# Altium footprint library Resistors.PcbLib: 73 footprints (part 4 of 5)
Each footprint in its own frame and in the unit in brackets; x right, y up, seen from the top. Pads: shape width x height; smd on the part's side, far side on the other; paste and mask are expansions set on the pad; w line width, h text height; cw(c..) or ccw(c..) is an arc to the next point about the centre after c.
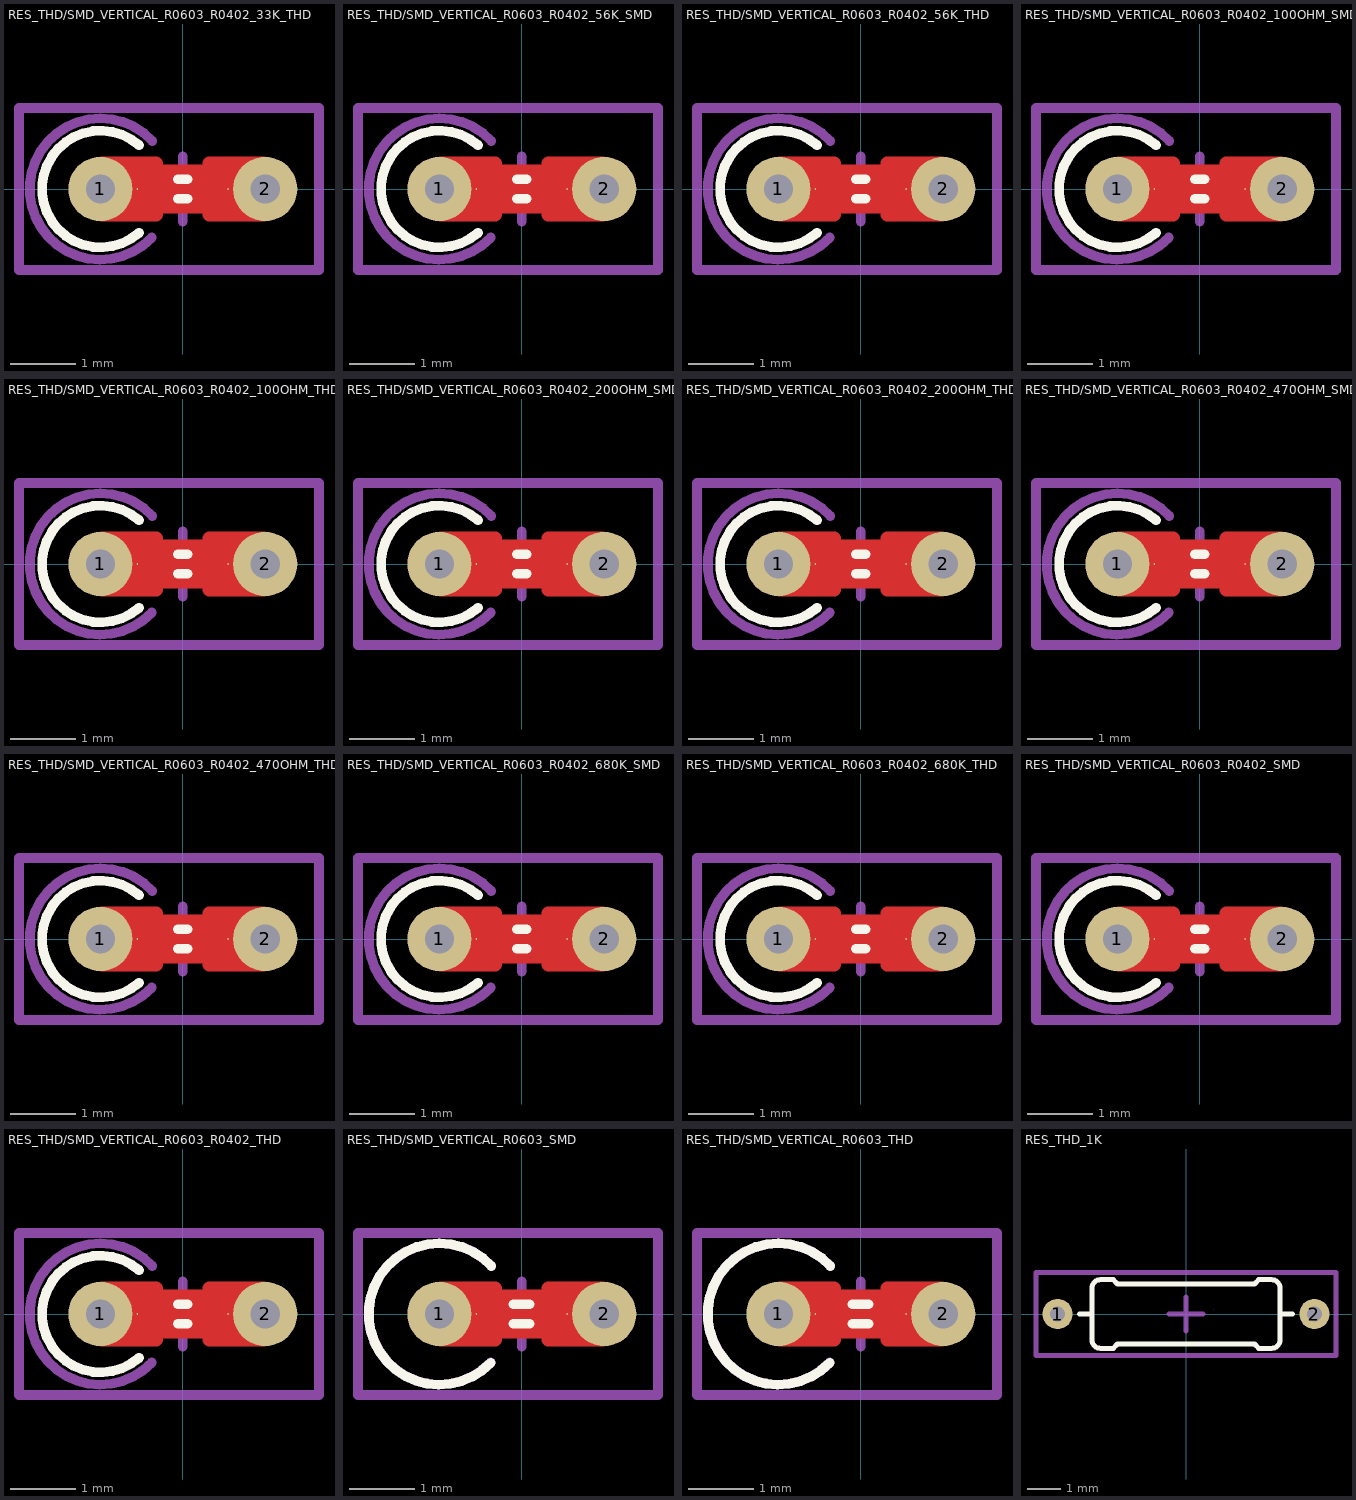
[diagram p3: the footprints below, top view; thin cyan lines are the x and y axes]

## RES_THD/SMD_VERTICAL_R0603_R0402_33K_THD [mm] "Resistor, Through Hole & SMD 0603, Vertical Mount, THD 3D Model 33k, ±1%"
pads (4):
  round 0.99 / inner round 0.99 / far side round 1.3 hole 0.45: 1(-1.27,0) 2(1.27,0)
  round 0.025 smd: 1(-0.7,0) 2(0.7,0)
Top Layer:
  pour cut-out: -0.407,0.371 0.407,0.371 0.407,-0.371 -0.407,-0.371
  region: 0.408,-0.495 1.255,-0.495 1.274,-0.495 1.309,-0.481 1.336,-0.454 1.35,-0.419 1.35,-0.4 1.35,0.4 1.35,0.419 1.336,0.454 1.309,0.481 1.274,0.495 1.255,0.495 0.407,0.495 0.388,0.495 0.352,0.48 0.325,0.453 0.31,0.417 0.31,0.397 0.31,0.3 0.25,0.3 0.24,0.3 0.222,0.292 0.208,0.278 0.2,0.26 0.2,0.25 0.2,-0.25 0.2,-0.26 0.208,-0.278 0.222,-0.292 0.24,-0.3 0.25,-0.3 0.31,-0.3 0.31,-0.397 0.31,-0.417 0.325,-0.453 0.352,-0.48 0.388,-0.495
  region: -0.408,-0.495 -1.255,-0.495 -1.274,-0.495 -1.309,-0.481 -1.336,-0.454 -1.35,-0.419 -1.35,-0.4 -1.35,0.4 -1.35,0.419 -1.336,0.454 -1.309,0.481 -1.274,0.495 -1.255,0.495 -0.407,0.495 -0.388,0.495 -0.352,0.48 -0.325,0.453 -0.31,0.417 -0.31,0.397 -0.31,0.3 -0.25,0.3 -0.24,0.3 -0.222,0.292 -0.208,0.278 -0.2,0.26 -0.2,0.25 -0.2,-0.25 -0.2,-0.26 -0.208,-0.278 -0.222,-0.292 -0.24,-0.3 -0.25,-0.3 -0.31,-0.3 -0.31,-0.397 -0.31,-0.417 -0.325,-0.453 -0.352,-0.48 -0.388,-0.495
Top Overlay:
  lines w0.15: -0.675,-0.675 cw(c-1.27,0) -0.675,0.675 ; -0.075,-0.15 0.075,-0.15 ; -0.075,0.15 0.075,0.15
Top Designator:
  text ".Designator" at -2.503,-0.266 h1.3
Mechanical 13:
  lines w0.15: -0.478,-0.749 cw(c-1.27,0) -0.471,0.741
Mechanical 15:
  lines w0.15: -0.5,0 0.5,0 ; 0,-0.5 0,0.5 ; -2.525,-1.25 -2.525,1.25 2.1,1.25 2.1,-1.25 -2.525,-1.25
3D body "Ðåçèñòîð Âûâîäíîé Âåðòèêàëüíûé 33 êÎì.stp": height 7.79, standoff -1.9, extent -2.438,-1.168 1.485,1.168

## RES_THD/SMD_VERTICAL_R0603_R0402_56K_SMD [mm] "Resistor, Through Hole & SMD 0603, Vertical Mount, SMD 3D Model 56k, ±1%"
pads (4):
  round 0.99 / inner round 0.99 / far side round 1.3 hole 0.45: 1(-1.27,0) 2(1.27,0)
  round 0.025 smd: 1(-0.7,0) 2(0.7,0)
Top Layer:
  pour cut-out: -0.407,0.371 0.407,0.371 0.407,-0.371 -0.407,-0.371
  region: 0.408,-0.495 1.255,-0.495 1.274,-0.495 1.309,-0.481 1.336,-0.454 1.35,-0.419 1.35,-0.4 1.35,0.4 1.35,0.419 1.336,0.454 1.309,0.481 1.274,0.495 1.255,0.495 0.407,0.495 0.388,0.495 0.352,0.48 0.325,0.453 0.31,0.417 0.31,0.397 0.31,0.3 0.25,0.3 0.24,0.3 0.222,0.292 0.208,0.278 0.2,0.26 0.2,0.25 0.2,-0.25 0.2,-0.26 0.208,-0.278 0.222,-0.292 0.24,-0.3 0.25,-0.3 0.31,-0.3 0.31,-0.397 0.31,-0.417 0.325,-0.453 0.352,-0.48 0.388,-0.495
  region: -0.408,-0.495 -1.255,-0.495 -1.274,-0.495 -1.309,-0.481 -1.336,-0.454 -1.35,-0.419 -1.35,-0.4 -1.35,0.4 -1.35,0.419 -1.336,0.454 -1.309,0.481 -1.274,0.495 -1.255,0.495 -0.407,0.495 -0.388,0.495 -0.352,0.48 -0.325,0.453 -0.31,0.417 -0.31,0.397 -0.31,0.3 -0.25,0.3 -0.24,0.3 -0.222,0.292 -0.208,0.278 -0.2,0.26 -0.2,0.25 -0.2,-0.25 -0.2,-0.26 -0.208,-0.278 -0.222,-0.292 -0.24,-0.3 -0.25,-0.3 -0.31,-0.3 -0.31,-0.397 -0.31,-0.417 -0.325,-0.453 -0.352,-0.48 -0.388,-0.495
Top Overlay:
  lines w0.15: -0.675,-0.675 cw(c-1.27,0) -0.675,0.675 ; -0.075,-0.15 0.075,-0.15 ; -0.075,0.15 0.075,0.15
Top Designator:
  text ".Designator" at -2.503,-0.266 h1.3
Mechanical 13:
  lines w0.15: -0.478,-0.749 cw(c-1.27,0) -0.471,0.741
Mechanical 15:
  lines w0.15: -0.5,0 0.5,0 ; 0,-0.5 0,0.5 ; -2.525,-1.25 2.1,-1.25 2.1,1.25 -2.525,1.25 -2.525,-1.25
3D body "56K.x_t": height 0.46, standoff 0, extent -0.8,-0.4 0.8,0.4

## RES_THD/SMD_VERTICAL_R0603_R0402_56K_THD [mm] "Resistor, Through Hole & SMD 0603, Vertical Mount, THD 3D Model 56k, ±1%"
pads (4):
  round 0.99 / inner round 0.99 / far side round 1.3 hole 0.45: 1(-1.27,0) 2(1.27,0)
  round 0.025 smd: 1(-0.7,0) 2(0.7,0)
Top Layer:
  pour cut-out: -0.407,0.371 0.407,0.371 0.407,-0.371 -0.407,-0.371
  region: 0.408,-0.495 1.255,-0.495 1.274,-0.495 1.309,-0.481 1.336,-0.454 1.35,-0.419 1.35,-0.4 1.35,0.4 1.35,0.419 1.336,0.454 1.309,0.481 1.274,0.495 1.255,0.495 0.407,0.495 0.388,0.495 0.352,0.48 0.325,0.453 0.31,0.417 0.31,0.397 0.31,0.3 0.25,0.3 0.24,0.3 0.222,0.292 0.208,0.278 0.2,0.26 0.2,0.25 0.2,-0.25 0.2,-0.26 0.208,-0.278 0.222,-0.292 0.24,-0.3 0.25,-0.3 0.31,-0.3 0.31,-0.397 0.31,-0.417 0.325,-0.453 0.352,-0.48 0.388,-0.495
  region: -0.408,-0.495 -1.255,-0.495 -1.274,-0.495 -1.309,-0.481 -1.336,-0.454 -1.35,-0.419 -1.35,-0.4 -1.35,0.4 -1.35,0.419 -1.336,0.454 -1.309,0.481 -1.274,0.495 -1.255,0.495 -0.407,0.495 -0.388,0.495 -0.352,0.48 -0.325,0.453 -0.31,0.417 -0.31,0.397 -0.31,0.3 -0.25,0.3 -0.24,0.3 -0.222,0.292 -0.208,0.278 -0.2,0.26 -0.2,0.25 -0.2,-0.25 -0.2,-0.26 -0.208,-0.278 -0.222,-0.292 -0.24,-0.3 -0.25,-0.3 -0.31,-0.3 -0.31,-0.397 -0.31,-0.417 -0.325,-0.453 -0.352,-0.48 -0.388,-0.495
Top Overlay:
  lines w0.15: -0.675,-0.675 cw(c-1.27,0) -0.675,0.675 ; -0.075,-0.15 0.075,-0.15 ; -0.075,0.15 0.075,0.15
Top Designator:
  text ".Designator" at -2.503,-0.266 h1.3
Mechanical 13:
  lines w0.15: -0.478,-0.749 cw(c-1.27,0) -0.471,0.741
Mechanical 15:
  lines w0.15: -0.5,0 0.5,0 ; 0,-0.5 0,0.5 ; -2.525,-1.25 -2.525,1.25 2.1,1.25 2.1,-1.25 -2.525,-1.25
3D body "Ðåçèñòîð Âûâîäíîé Âåðòèêàëüíûé 56 êÎì.stp": height 7.79, standoff -1.9, extent -2.438,-1.168 1.485,1.168

## RES_THD/SMD_VERTICAL_R0603_R0402_100OHM_SMD [mm] "Resistor, Through Hole & SMD 0603, Vertical Mount, SMD 3D Model 100Ohm, ±1%"
pads (4):
  round 0.99 / inner round 0.99 / far side round 1.3 hole 0.45: 1(-1.27,0) 2(1.27,0)
  round 0.025 smd: 1(-0.7,0) 2(0.7,0)
Top Layer:
  pour cut-out: -0.407,0.371 0.407,0.371 0.407,-0.371 -0.407,-0.371
  region: 0.408,-0.495 1.255,-0.495 1.274,-0.495 1.309,-0.481 1.336,-0.454 1.35,-0.419 1.35,-0.4 1.35,0.4 1.35,0.419 1.336,0.454 1.309,0.481 1.274,0.495 1.255,0.495 0.407,0.495 0.388,0.495 0.352,0.48 0.325,0.453 0.31,0.417 0.31,0.397 0.31,0.3 0.25,0.3 0.24,0.3 0.222,0.292 0.208,0.278 0.2,0.26 0.2,0.25 0.2,-0.25 0.2,-0.26 0.208,-0.278 0.222,-0.292 0.24,-0.3 0.25,-0.3 0.31,-0.3 0.31,-0.397 0.31,-0.417 0.325,-0.453 0.352,-0.48 0.388,-0.495
  region: -0.408,-0.495 -1.255,-0.495 -1.274,-0.495 -1.309,-0.481 -1.336,-0.454 -1.35,-0.419 -1.35,-0.4 -1.35,0.4 -1.35,0.419 -1.336,0.454 -1.309,0.481 -1.274,0.495 -1.255,0.495 -0.407,0.495 -0.388,0.495 -0.352,0.48 -0.325,0.453 -0.31,0.417 -0.31,0.397 -0.31,0.3 -0.25,0.3 -0.24,0.3 -0.222,0.292 -0.208,0.278 -0.2,0.26 -0.2,0.25 -0.2,-0.25 -0.2,-0.26 -0.208,-0.278 -0.222,-0.292 -0.24,-0.3 -0.25,-0.3 -0.31,-0.3 -0.31,-0.397 -0.31,-0.417 -0.325,-0.453 -0.352,-0.48 -0.388,-0.495
Top Overlay:
  lines w0.15: -0.675,-0.675 cw(c-1.27,0) -0.675,0.675 ; -0.075,-0.15 0.075,-0.15 ; -0.075,0.15 0.075,0.15
Top Designator:
  text ".Designator" at -2.503,-0.266 h1.3
Mechanical 13:
  lines w0.15: -0.478,-0.749 cw(c-1.27,0) -0.471,0.741
Mechanical 15:
  lines w0.15: -0.5,0 0.5,0 ; 0,-0.5 0,0.5 ; -2.525,-1.25 -2.525,1.25 2.1,1.25 2.1,-1.25 -2.525,-1.25
3D body "100 ohm.x_t": height 0.46, standoff 0, extent -0.8,-0.4 0.8,0.4

## RES_THD/SMD_VERTICAL_R0603_R0402_100OHM_THD [mm] "Resistor, Through Hole & SMD 0603, Vertical Mount, THD 3D Model 100Ohm, ±1%"
pads (4):
  round 0.99 / inner round 0.99 / far side round 1.3 hole 0.45: 1(-1.27,0) 2(1.27,0)
  round 0.025 smd: 1(-0.7,0) 2(0.7,0)
Top Layer:
  pour cut-out: -0.407,0.371 0.407,0.371 0.407,-0.371 -0.407,-0.371
  region: 0.408,-0.495 1.255,-0.495 1.274,-0.495 1.309,-0.481 1.336,-0.454 1.35,-0.419 1.35,-0.4 1.35,0.4 1.35,0.419 1.336,0.454 1.309,0.481 1.274,0.495 1.255,0.495 0.407,0.495 0.388,0.495 0.352,0.48 0.325,0.453 0.31,0.417 0.31,0.397 0.31,0.3 0.25,0.3 0.24,0.3 0.222,0.292 0.208,0.278 0.2,0.26 0.2,0.25 0.2,-0.25 0.2,-0.26 0.208,-0.278 0.222,-0.292 0.24,-0.3 0.25,-0.3 0.31,-0.3 0.31,-0.397 0.31,-0.417 0.325,-0.453 0.352,-0.48 0.388,-0.495
  region: -0.408,-0.495 -1.255,-0.495 -1.274,-0.495 -1.309,-0.481 -1.336,-0.454 -1.35,-0.419 -1.35,-0.4 -1.35,0.4 -1.35,0.419 -1.336,0.454 -1.309,0.481 -1.274,0.495 -1.255,0.495 -0.407,0.495 -0.388,0.495 -0.352,0.48 -0.325,0.453 -0.31,0.417 -0.31,0.397 -0.31,0.3 -0.25,0.3 -0.24,0.3 -0.222,0.292 -0.208,0.278 -0.2,0.26 -0.2,0.25 -0.2,-0.25 -0.2,-0.26 -0.208,-0.278 -0.222,-0.292 -0.24,-0.3 -0.25,-0.3 -0.31,-0.3 -0.31,-0.397 -0.31,-0.417 -0.325,-0.453 -0.352,-0.48 -0.388,-0.495
Top Overlay:
  lines w0.15: -0.675,-0.675 cw(c-1.27,0) -0.675,0.675 ; -0.075,-0.15 0.075,-0.15 ; -0.075,0.15 0.075,0.15
Top Designator:
  text ".Designator" at -2.503,-0.266 h1.3
Mechanical 13:
  lines w0.15: -0.478,-0.749 cw(c-1.27,0) -0.471,0.741
Mechanical 15:
  lines w0.15: -0.5,0 0.5,0 ; 0,-0.5 0,0.5 ; -2.525,-1.25 2.1,-1.25 2.1,1.25 -2.525,1.25 -2.525,-1.25
3D body "Ðåçèñòîð Âûâîäíîé Âåðòèêàëüíûé 100 Îì.stp": height 7.79, standoff -1.9, extent -2.438,-1.168 1.485,1.168

## RES_THD/SMD_VERTICAL_R0603_R0402_200OHM_SMD [mm] "Resistor, Through Hole & SMD 0603, Vertical Mount, SMD 3D Model 200Ohm, ±1%"
pads (4):
  round 0.99 / inner round 0.99 / far side round 1.3 hole 0.45: 1(-1.27,0) 2(1.27,0)
  round 0.025 smd: 1(-0.7,0) 2(0.7,0)
Top Layer:
  pour cut-out: -0.407,0.371 0.407,0.371 0.407,-0.371 -0.407,-0.371
  region: 0.408,-0.495 1.255,-0.495 1.274,-0.495 1.309,-0.481 1.336,-0.454 1.35,-0.419 1.35,-0.4 1.35,0.4 1.35,0.419 1.336,0.454 1.309,0.481 1.274,0.495 1.255,0.495 0.407,0.495 0.388,0.495 0.352,0.48 0.325,0.453 0.31,0.417 0.31,0.397 0.31,0.3 0.25,0.3 0.24,0.3 0.222,0.292 0.208,0.278 0.2,0.26 0.2,0.25 0.2,-0.25 0.2,-0.26 0.208,-0.278 0.222,-0.292 0.24,-0.3 0.25,-0.3 0.31,-0.3 0.31,-0.397 0.31,-0.417 0.325,-0.453 0.352,-0.48 0.388,-0.495
  region: -0.408,-0.495 -1.255,-0.495 -1.274,-0.495 -1.309,-0.481 -1.336,-0.454 -1.35,-0.419 -1.35,-0.4 -1.35,0.4 -1.35,0.419 -1.336,0.454 -1.309,0.481 -1.274,0.495 -1.255,0.495 -0.407,0.495 -0.388,0.495 -0.352,0.48 -0.325,0.453 -0.31,0.417 -0.31,0.397 -0.31,0.3 -0.25,0.3 -0.24,0.3 -0.222,0.292 -0.208,0.278 -0.2,0.26 -0.2,0.25 -0.2,-0.25 -0.2,-0.26 -0.208,-0.278 -0.222,-0.292 -0.24,-0.3 -0.25,-0.3 -0.31,-0.3 -0.31,-0.397 -0.31,-0.417 -0.325,-0.453 -0.352,-0.48 -0.388,-0.495
Top Overlay:
  lines w0.15: -0.675,-0.675 cw(c-1.27,0) -0.675,0.675 ; -0.075,-0.15 0.075,-0.15 ; -0.075,0.15 0.075,0.15
Top Designator:
  text ".Designator" at -2.503,-0.266 h1.3
Mechanical 13:
  lines w0.15: -0.478,-0.749 cw(c-1.27,0) -0.471,0.741
Mechanical 15:
  lines w0.15: -0.5,0 0.5,0 ; 0,-0.5 0,0.5 ; -2.525,-1.25 -2.525,1.25 2.1,1.25 2.1,-1.25 -2.525,-1.25
3D body "R0603 - 200 Ohm.stp": height 0.46, standoff 0, extent -0.8,-0.4 0.8,0.4

## RES_THD/SMD_VERTICAL_R0603_R0402_200OHM_THD [mm] "Resistor, Through Hole & SMD 0603, Vertical Mount, THD 3D Model 200Ohm, ±1%"
pads (4):
  round 0.99 / inner round 0.99 / far side round 1.3 hole 0.45: 1(-1.27,0) 2(1.27,0)
  round 0.025 smd: 1(-0.7,0) 2(0.7,0)
Top Layer:
  pour cut-out: -0.407,0.371 0.407,0.371 0.407,-0.371 -0.407,-0.371
  region: 0.408,-0.495 1.255,-0.495 1.274,-0.495 1.309,-0.481 1.336,-0.454 1.35,-0.419 1.35,-0.4 1.35,0.4 1.35,0.419 1.336,0.454 1.309,0.481 1.274,0.495 1.255,0.495 0.407,0.495 0.388,0.495 0.352,0.48 0.325,0.453 0.31,0.417 0.31,0.397 0.31,0.3 0.25,0.3 0.24,0.3 0.222,0.292 0.208,0.278 0.2,0.26 0.2,0.25 0.2,-0.25 0.2,-0.26 0.208,-0.278 0.222,-0.292 0.24,-0.3 0.25,-0.3 0.31,-0.3 0.31,-0.397 0.31,-0.417 0.325,-0.453 0.352,-0.48 0.388,-0.495
  region: -0.408,-0.495 -1.255,-0.495 -1.274,-0.495 -1.309,-0.481 -1.336,-0.454 -1.35,-0.419 -1.35,-0.4 -1.35,0.4 -1.35,0.419 -1.336,0.454 -1.309,0.481 -1.274,0.495 -1.255,0.495 -0.407,0.495 -0.388,0.495 -0.352,0.48 -0.325,0.453 -0.31,0.417 -0.31,0.397 -0.31,0.3 -0.25,0.3 -0.24,0.3 -0.222,0.292 -0.208,0.278 -0.2,0.26 -0.2,0.25 -0.2,-0.25 -0.2,-0.26 -0.208,-0.278 -0.222,-0.292 -0.24,-0.3 -0.25,-0.3 -0.31,-0.3 -0.31,-0.397 -0.31,-0.417 -0.325,-0.453 -0.352,-0.48 -0.388,-0.495
Top Overlay:
  lines w0.15: -0.675,-0.675 cw(c-1.27,0) -0.675,0.675 ; -0.075,-0.15 0.075,-0.15 ; -0.075,0.15 0.075,0.15
Top Designator:
  text ".Designator" at -2.503,-0.266 h1.3
Mechanical 13:
  lines w0.15: -0.478,-0.749 cw(c-1.27,0) -0.471,0.741
Mechanical 15:
  lines w0.15: -0.5,0 0.5,0 ; 0,-0.5 0,0.5 ; -2.525,-1.25 2.1,-1.25 2.1,1.25 -2.525,1.25 -2.525,-1.25
3D body "Ðåçèñòîð Âûâîäíîé Âåðòèêàëüíûé 200 Îì.stp": height 7.79, standoff -1.9, extent -2.438,-1.168 1.485,1.168

## RES_THD/SMD_VERTICAL_R0603_R0402_470OHM_SMD [mm] "Resistor, Through Hole & SMD 0603, Vertical Mount, SMD 3D Model 470Ohm, ±1%"
pads (4):
  round 0.99 / inner round 0.99 / far side round 1.3 hole 0.45: 1(-1.27,0) 2(1.27,0)
  round 0.025 smd: 1(-0.7,0) 2(0.7,0)
Top Layer:
  pour cut-out: -0.407,0.371 0.407,0.371 0.407,-0.371 -0.407,-0.371
  region: 0.408,-0.495 1.255,-0.495 1.274,-0.495 1.309,-0.481 1.336,-0.454 1.35,-0.419 1.35,-0.4 1.35,0.4 1.35,0.419 1.336,0.454 1.309,0.481 1.274,0.495 1.255,0.495 0.407,0.495 0.388,0.495 0.352,0.48 0.325,0.453 0.31,0.417 0.31,0.397 0.31,0.3 0.25,0.3 0.24,0.3 0.222,0.292 0.208,0.278 0.2,0.26 0.2,0.25 0.2,-0.25 0.2,-0.26 0.208,-0.278 0.222,-0.292 0.24,-0.3 0.25,-0.3 0.31,-0.3 0.31,-0.397 0.31,-0.417 0.325,-0.453 0.352,-0.48 0.388,-0.495
  region: -0.408,-0.495 -1.255,-0.495 -1.274,-0.495 -1.309,-0.481 -1.336,-0.454 -1.35,-0.419 -1.35,-0.4 -1.35,0.4 -1.35,0.419 -1.336,0.454 -1.309,0.481 -1.274,0.495 -1.255,0.495 -0.407,0.495 -0.388,0.495 -0.352,0.48 -0.325,0.453 -0.31,0.417 -0.31,0.397 -0.31,0.3 -0.25,0.3 -0.24,0.3 -0.222,0.292 -0.208,0.278 -0.2,0.26 -0.2,0.25 -0.2,-0.25 -0.2,-0.26 -0.208,-0.278 -0.222,-0.292 -0.24,-0.3 -0.25,-0.3 -0.31,-0.3 -0.31,-0.397 -0.31,-0.417 -0.325,-0.453 -0.352,-0.48 -0.388,-0.495
Top Overlay:
  lines w0.15: -0.675,-0.675 cw(c-1.27,0) -0.675,0.675 ; -0.075,-0.15 0.075,-0.15 ; -0.075,0.15 0.075,0.15
Top Designator:
  text ".Designator" at -2.503,-0.266 h1.3
Mechanical 13:
  lines w0.15: -0.478,-0.749 cw(c-1.27,0) -0.471,0.741
Mechanical 15:
  lines w0.15: -0.5,0 0.5,0 ; 0,-0.5 0,0.5 ; -2.525,-1.25 -2.525,1.25 2.1,1.25 2.1,-1.25 -2.525,-1.25
3D body "470 ohm.x_t": height 0.46, standoff 0, extent -0.8,-0.4 0.8,0.4

## RES_THD/SMD_VERTICAL_R0603_R0402_470OHM_THD [mm] "Resistor, Through Hole & SMD 0603, Vertical Mount, THD 3D Model 470Ohm, ±1%"
pads (4):
  round 0.99 / inner round 0.99 / far side round 1.3 hole 0.45: 1(-1.27,0) 2(1.27,0)
  round 0.025 smd: 1(-0.7,0) 2(0.7,0)
Top Layer:
  pour cut-out: -0.407,0.371 0.407,0.371 0.407,-0.371 -0.407,-0.371
  region: 0.408,-0.495 1.255,-0.495 1.274,-0.495 1.309,-0.481 1.336,-0.454 1.35,-0.419 1.35,-0.4 1.35,0.4 1.35,0.419 1.336,0.454 1.309,0.481 1.274,0.495 1.255,0.495 0.407,0.495 0.388,0.495 0.352,0.48 0.325,0.453 0.31,0.417 0.31,0.397 0.31,0.3 0.25,0.3 0.24,0.3 0.222,0.292 0.208,0.278 0.2,0.26 0.2,0.25 0.2,-0.25 0.2,-0.26 0.208,-0.278 0.222,-0.292 0.24,-0.3 0.25,-0.3 0.31,-0.3 0.31,-0.397 0.31,-0.417 0.325,-0.453 0.352,-0.48 0.388,-0.495
  region: -0.408,-0.495 -1.255,-0.495 -1.274,-0.495 -1.309,-0.481 -1.336,-0.454 -1.35,-0.419 -1.35,-0.4 -1.35,0.4 -1.35,0.419 -1.336,0.454 -1.309,0.481 -1.274,0.495 -1.255,0.495 -0.407,0.495 -0.388,0.495 -0.352,0.48 -0.325,0.453 -0.31,0.417 -0.31,0.397 -0.31,0.3 -0.25,0.3 -0.24,0.3 -0.222,0.292 -0.208,0.278 -0.2,0.26 -0.2,0.25 -0.2,-0.25 -0.2,-0.26 -0.208,-0.278 -0.222,-0.292 -0.24,-0.3 -0.25,-0.3 -0.31,-0.3 -0.31,-0.397 -0.31,-0.417 -0.325,-0.453 -0.352,-0.48 -0.388,-0.495
Top Overlay:
  lines w0.15: -0.675,-0.675 cw(c-1.27,0) -0.675,0.675 ; -0.075,-0.15 0.075,-0.15 ; -0.075,0.15 0.075,0.15
Top Designator:
  text ".Designator" at -2.503,-0.266 h1.3
Mechanical 13:
  lines w0.15: -0.478,-0.749 cw(c-1.27,0) -0.471,0.741
Mechanical 15:
  lines w0.15: -0.5,0 0.5,0 ; 0,-0.5 0,0.5 ; -2.525,-1.25 -2.525,1.25 2.1,1.25 2.1,-1.25 -2.525,-1.25
3D body "Ðåçèñòîð Âûâîäíîé Âåðòèêàëüíûé 470 Îì.stp": height 7.79, standoff -1.9, extent -2.438,-1.168 1.485,1.168

## RES_THD/SMD_VERTICAL_R0603_R0402_680K_SMD [mm] "Resistor, Through Hole & SMD 0603, Vertical Mount, SMD 3D Model 680k, ±1%"
pads (4):
  round 0.99 / inner round 0.99 / far side round 1.3 hole 0.45: 1(-1.27,0) 2(1.27,0)
  round 0.025 smd: 1(-0.7,0) 2(0.7,0)
Top Layer:
  pour cut-out: -0.407,0.371 0.407,0.371 0.407,-0.371 -0.407,-0.371
  region: 0.408,-0.495 1.255,-0.495 1.274,-0.495 1.309,-0.481 1.336,-0.454 1.35,-0.419 1.35,-0.4 1.35,0.4 1.35,0.419 1.336,0.454 1.309,0.481 1.274,0.495 1.255,0.495 0.407,0.495 0.388,0.495 0.352,0.48 0.325,0.453 0.31,0.417 0.31,0.397 0.31,0.3 0.25,0.3 0.24,0.3 0.222,0.292 0.208,0.278 0.2,0.26 0.2,0.25 0.2,-0.25 0.2,-0.26 0.208,-0.278 0.222,-0.292 0.24,-0.3 0.25,-0.3 0.31,-0.3 0.31,-0.397 0.31,-0.417 0.325,-0.453 0.352,-0.48 0.388,-0.495
  region: -0.408,-0.495 -1.255,-0.495 -1.274,-0.495 -1.309,-0.481 -1.336,-0.454 -1.35,-0.419 -1.35,-0.4 -1.35,0.4 -1.35,0.419 -1.336,0.454 -1.309,0.481 -1.274,0.495 -1.255,0.495 -0.407,0.495 -0.388,0.495 -0.352,0.48 -0.325,0.453 -0.31,0.417 -0.31,0.397 -0.31,0.3 -0.25,0.3 -0.24,0.3 -0.222,0.292 -0.208,0.278 -0.2,0.26 -0.2,0.25 -0.2,-0.25 -0.2,-0.26 -0.208,-0.278 -0.222,-0.292 -0.24,-0.3 -0.25,-0.3 -0.31,-0.3 -0.31,-0.397 -0.31,-0.417 -0.325,-0.453 -0.352,-0.48 -0.388,-0.495
Top Overlay:
  lines w0.15: -0.675,-0.675 cw(c-1.27,0) -0.675,0.675 ; -0.075,-0.15 0.075,-0.15 ; -0.075,0.15 0.075,0.15
Top Designator:
  text ".Designator" at -2.503,-0.266 h1.3
Mechanical 13:
  lines w0.15: -0.478,-0.749 cw(c-1.27,0) -0.471,0.741
Mechanical 15:
  lines w0.15: -0.5,0 0.5,0 ; 0,-0.5 0,0.5 ; -2.525,-1.25 -2.525,1.25 2.1,1.25 2.1,-1.25 -2.525,-1.25
3D body "R0603 - 680 kOhm.stp": height 0.46, standoff 0, extent -0.8,-0.4 0.8,0.4

## RES_THD/SMD_VERTICAL_R0603_R0402_680K_THD [mm] "Resistor, Through Hole & SMD 0603, Vertical Mount, THD 3D Model 680k, ±1%"
pads (4):
  round 0.99 / inner round 0.99 / far side round 1.3 hole 0.45: 1(-1.27,0) 2(1.27,0)
  round 0.025 smd: 1(-0.7,0) 2(0.7,0)
Top Layer:
  pour cut-out: -0.407,0.371 0.407,0.371 0.407,-0.371 -0.407,-0.371
  region: 0.408,-0.495 1.255,-0.495 1.274,-0.495 1.309,-0.481 1.336,-0.454 1.35,-0.419 1.35,-0.4 1.35,0.4 1.35,0.419 1.336,0.454 1.309,0.481 1.274,0.495 1.255,0.495 0.407,0.495 0.388,0.495 0.352,0.48 0.325,0.453 0.31,0.417 0.31,0.397 0.31,0.3 0.25,0.3 0.24,0.3 0.222,0.292 0.208,0.278 0.2,0.26 0.2,0.25 0.2,-0.25 0.2,-0.26 0.208,-0.278 0.222,-0.292 0.24,-0.3 0.25,-0.3 0.31,-0.3 0.31,-0.397 0.31,-0.417 0.325,-0.453 0.352,-0.48 0.388,-0.495
  region: -0.408,-0.495 -1.255,-0.495 -1.274,-0.495 -1.309,-0.481 -1.336,-0.454 -1.35,-0.419 -1.35,-0.4 -1.35,0.4 -1.35,0.419 -1.336,0.454 -1.309,0.481 -1.274,0.495 -1.255,0.495 -0.407,0.495 -0.388,0.495 -0.352,0.48 -0.325,0.453 -0.31,0.417 -0.31,0.397 -0.31,0.3 -0.25,0.3 -0.24,0.3 -0.222,0.292 -0.208,0.278 -0.2,0.26 -0.2,0.25 -0.2,-0.25 -0.2,-0.26 -0.208,-0.278 -0.222,-0.292 -0.24,-0.3 -0.25,-0.3 -0.31,-0.3 -0.31,-0.397 -0.31,-0.417 -0.325,-0.453 -0.352,-0.48 -0.388,-0.495
Top Overlay:
  lines w0.15: -0.675,-0.675 cw(c-1.27,0) -0.675,0.675 ; -0.075,-0.15 0.075,-0.15 ; -0.075,0.15 0.075,0.15
Top Designator:
  text ".Designator" at -2.503,-0.266 h1.3
Mechanical 13:
  lines w0.15: -0.478,-0.749 cw(c-1.27,0) -0.471,0.741
Mechanical 15:
  lines w0.15: -0.5,0 0.5,0 ; 0,-0.5 0,0.5 ; -2.525,-1.25 -2.525,1.25 2.1,1.25 2.1,-1.25 -2.525,-1.25
3D body "Ðåçèñòîð Âûâîäíîé Âåðòèêàëüíûé 680 êÎì.stp": height 7.79, standoff -1.9, extent -2.438,-1.168 1.485,1.168

## RES_THD/SMD_VERTICAL_R0603_R0402_SMD [mm] "Resistor, Through Hole & SMD, Vertical Mount"
pads (4):
  round 0.99 / inner round 0.99 / far side round 1.3 hole 0.45: 1(-1.27,0) 2(1.27,0)
  round 0.025 smd: 1(-0.7,0) 2(0.7,0)
Top Layer:
  pour cut-out: -0.407,0.371 0.407,0.371 0.407,-0.371 -0.407,-0.371
  region: 0.408,-0.495 1.255,-0.495 1.274,-0.495 1.309,-0.481 1.336,-0.454 1.35,-0.419 1.35,-0.4 1.35,0.4 1.35,0.419 1.336,0.454 1.309,0.481 1.274,0.495 1.255,0.495 0.407,0.495 0.388,0.495 0.352,0.48 0.325,0.453 0.31,0.417 0.31,0.397 0.31,0.3 0.25,0.3 0.24,0.3 0.222,0.292 0.208,0.278 0.2,0.26 0.2,0.25 0.2,-0.25 0.2,-0.26 0.208,-0.278 0.222,-0.292 0.24,-0.3 0.25,-0.3 0.31,-0.3 0.31,-0.397 0.31,-0.417 0.325,-0.453 0.352,-0.48 0.388,-0.495
  region: -0.408,-0.495 -1.255,-0.495 -1.274,-0.495 -1.309,-0.481 -1.336,-0.454 -1.35,-0.419 -1.35,-0.4 -1.35,0.4 -1.35,0.419 -1.336,0.454 -1.309,0.481 -1.274,0.495 -1.255,0.495 -0.407,0.495 -0.388,0.495 -0.352,0.48 -0.325,0.453 -0.31,0.417 -0.31,0.397 -0.31,0.3 -0.25,0.3 -0.24,0.3 -0.222,0.292 -0.208,0.278 -0.2,0.26 -0.2,0.25 -0.2,-0.25 -0.2,-0.26 -0.208,-0.278 -0.222,-0.292 -0.24,-0.3 -0.25,-0.3 -0.31,-0.3 -0.31,-0.397 -0.31,-0.417 -0.325,-0.453 -0.352,-0.48 -0.388,-0.495
Top Overlay:
  lines w0.15: -0.675,-0.675 cw(c-1.27,0) -0.675,0.675 ; -0.075,-0.15 0.075,-0.15 ; -0.075,0.15 0.075,0.15
Top Designator:
  text ".Designator" at -2.503,-0.266 h1.3
Mechanical 13:
  lines w0.15: -0.478,-0.749 cw(c-1.27,0) -0.471,0.741
Mechanical 15:
  lines w0.15: -0.5,0 0.5,0 ; 0,-0.5 0,0.5 ; -2.525,-1.25 2.1,-1.25 2.1,1.25 -2.525,1.25 -2.525,-1.25
3D body "Resistor 0603 Without Marking.STEP": height 0.46, standoff 0, extent -0.8,-0.4 0.8,0.4

## RES_THD/SMD_VERTICAL_R0603_R0402_THD [mm] "Resistor, Through Hole & SMD, Vertical Mount"
pads (4):
  round 0.99 / inner round 0.99 / far side round 1.3 hole 0.45: 1(-1.27,0) 2(1.27,0)
  round 0.025 smd: 1(-0.7,0) 2(0.7,0)
Top Layer:
  pour cut-out: -0.407,0.371 0.407,0.371 0.407,-0.371 -0.407,-0.371
  region: 0.408,-0.495 1.255,-0.495 1.274,-0.495 1.309,-0.481 1.336,-0.454 1.35,-0.419 1.35,-0.4 1.35,0.4 1.35,0.419 1.336,0.454 1.309,0.481 1.274,0.495 1.255,0.495 0.407,0.495 0.388,0.495 0.352,0.48 0.325,0.453 0.31,0.417 0.31,0.397 0.31,0.3 0.25,0.3 0.24,0.3 0.222,0.292 0.208,0.278 0.2,0.26 0.2,0.25 0.2,-0.25 0.2,-0.26 0.208,-0.278 0.222,-0.292 0.24,-0.3 0.25,-0.3 0.31,-0.3 0.31,-0.397 0.31,-0.417 0.325,-0.453 0.352,-0.48 0.388,-0.495
  region: -0.408,-0.495 -1.255,-0.495 -1.274,-0.495 -1.309,-0.481 -1.336,-0.454 -1.35,-0.419 -1.35,-0.4 -1.35,0.4 -1.35,0.419 -1.336,0.454 -1.309,0.481 -1.274,0.495 -1.255,0.495 -0.407,0.495 -0.388,0.495 -0.352,0.48 -0.325,0.453 -0.31,0.417 -0.31,0.397 -0.31,0.3 -0.25,0.3 -0.24,0.3 -0.222,0.292 -0.208,0.278 -0.2,0.26 -0.2,0.25 -0.2,-0.25 -0.2,-0.26 -0.208,-0.278 -0.222,-0.292 -0.24,-0.3 -0.25,-0.3 -0.31,-0.3 -0.31,-0.397 -0.31,-0.417 -0.325,-0.453 -0.352,-0.48 -0.388,-0.495
Top Overlay:
  lines w0.15: -0.675,-0.675 cw(c-1.27,0) -0.675,0.675 ; -0.075,-0.15 0.075,-0.15 ; -0.075,0.15 0.075,0.15
Top Designator:
  text ".Designator" at -2.503,-0.266 h1.3
Mechanical 13:
  lines w0.15: -0.478,-0.749 cw(c-1.27,0) -0.471,0.741
Mechanical 15:
  lines w0.15: -0.5,0 0.5,0 ; 0,-0.5 0,0.5 ; -2.525,-1.25 -2.525,1.25 2.1,1.25 2.1,-1.25 -2.525,-1.25
3D body "Ðåçèñòîð Âûâîäíîé Âåðòèêàëüíûé xxx.stp": height 7.79, standoff -1.9, extent -2.438,-1.168 1.485,1.168

## RES_THD/SMD_VERTICAL_R0603_SMD [mm] "Resistor, Through Hole & SMD, Vertical Mount"
pads (4):
  round 0.99 / inner round 0.99 / far side round 1.3 hole 0.45: 1(-1.27,0) 2(1.27,0)
  round 0.025 smd: 1(-0.7,0) 2(0.7,0)
Top Layer:
  pour cut-out: -0.407,0.371 0.407,0.371 0.407,-0.371 -0.407,-0.371
  region: 0.408,-0.495 1.27,-0.495 1.27,0.495 0.407,0.495 0.388,0.495 0.352,0.48 0.325,0.453 0.31,0.417 0.31,0.397 0.31,0.3 0.31,-0.3 0.31,-0.397 0.31,-0.417 0.325,-0.453 0.352,-0.48 0.388,-0.495
  region: -0.408,-0.495 -1.27,-0.495 -1.27,0.495 -0.407,0.495 -0.388,0.495 -0.352,0.48 -0.325,0.453 -0.31,0.417 -0.31,0.397 -0.31,0.3 -0.31,-0.3 -0.31,-0.397 -0.31,-0.417 -0.325,-0.453 -0.352,-0.48 -0.388,-0.495
Top Overlay:
  lines w0.15: -0.48,-0.75 cw(c-1.27,0) -0.471,0.741 ; -0.13,-0.15 0.12,-0.15 ; -0.13,0.15 0.12,0.15
Top Designator:
  text ".Designator" at -2.503,-0.266 h1.3
Mechanical 13:
  lines w0.15: -0.478,-0.749 cw(c-1.27,0) -0.471,0.741
Mechanical 15:
  lines w0.15: -0.5,0 0.5,0 ; 0,-0.5 0,0.5 ; -2.525,-1.25 2.1,-1.25 2.1,1.25 -2.525,1.25 -2.525,-1.25
3D body "Resistor 0603 Without Marking.STEP": height 0.46, standoff 0, extent -0.8,-0.4 0.8,0.4

## RES_THD/SMD_VERTICAL_R0603_THD [mm] "Resistor, Through Hole & SMD, Vertical Mount"
pads (4):
  round 0.99 / inner round 0.99 / far side round 1.3 hole 0.45: 1(-1.27,0) 2(1.27,0)
  round 0.025 smd: 1(-0.7,0) 2(0.7,0)
Top Layer:
  pour cut-out: -0.407,0.371 0.407,0.371 0.407,-0.371 -0.407,-0.371
  region: 0.408,-0.495 1.27,-0.495 1.27,0.495 0.407,0.495 0.388,0.495 0.352,0.48 0.325,0.453 0.31,0.417 0.31,0.397 0.31,0.3 0.31,-0.3 0.31,-0.397 0.31,-0.417 0.325,-0.453 0.352,-0.48 0.388,-0.495
  region: -0.408,-0.495 -1.27,-0.495 -1.27,0.495 -0.407,0.495 -0.388,0.495 -0.352,0.48 -0.325,0.453 -0.31,0.417 -0.31,0.397 -0.31,0.3 -0.31,-0.3 -0.31,-0.397 -0.31,-0.417 -0.325,-0.453 -0.352,-0.48 -0.388,-0.495
Top Overlay:
  lines w0.15: -0.48,-0.75 cw(c-1.27,0) -0.471,0.741 ; -0.13,-0.15 0.12,-0.15 ; -0.13,0.15 0.12,0.15
Top Designator:
  text ".Designator" at -2.503,-0.266 h1.3
Mechanical 13:
  lines w0.15: -0.478,-0.749 cw(c-1.27,0) -0.471,0.741
Mechanical 15:
  lines w0.15: -0.5,0 0.5,0 ; 0,-0.5 0,0.5 ; -2.525,-1.25 -2.525,1.25 2.1,1.25 2.1,-1.25 -2.525,-1.25
3D body "Ðåçèñòîð Âûâîäíîé Âåðòèêàëüíûé xxx.stp": height 7.79, standoff -1.9, extent -2.438,-1.168 1.485,1.168

## RES_THD_1K [mm] "Resistor, Through Hole, 1k?, ±1%"
pads (2):
  round 0.9 hole 0.45: 1(-3.81,0) 2(3.81,0)
Top Overlay:
  lines w0.15: -3.16,0 -2.84,0 ; 2.84,0 3.165,0 ; -2.792,-0.764 ccw(c-2.538,-0.764) -2.538,-1.018 -2.157,-1.018 -2.03,-0.891 2.03,-0.891 2.157,-1.018 2.538,-1.018 ccw(c2.538,-0.764) 2.792,-0.764 2.792,0.764 ccw(c2.538,0.764) 2.538,1.018 2.157,1.018 2.03,0.891 -2.03,0.891 -2.157,1.018 -2.538,1.018 ccw(c-2.538,0.764) -2.792,0.764 -2.792,-0.764
Top Designator:
  text ".Designator" at -2.503,-0.266 h1.3
Mechanical 15:
  lines w0.003: 0.825,0.127 0.826,0.127
  lines w0.15: -0.5,0 0.5,0 ; 0,-0.5 0,0.5 ; -4.45,-1.225 4.45,-1.225 4.45,1.225 -4.45,1.225 -4.45,-1.225
3D body "Ðåçèñòîð Âûâîäíîé Ãîðèçîíòàëüíûé 1 êÎì.stp": height 3.51, standoff -0.4, extent -4.025,-1.167 4.025,1.167